# Altium schematic symbol library AlhorithgLib.SchLib: 8 symbols
Pins are listed as number, name and electrical type; pins without a type are passive.

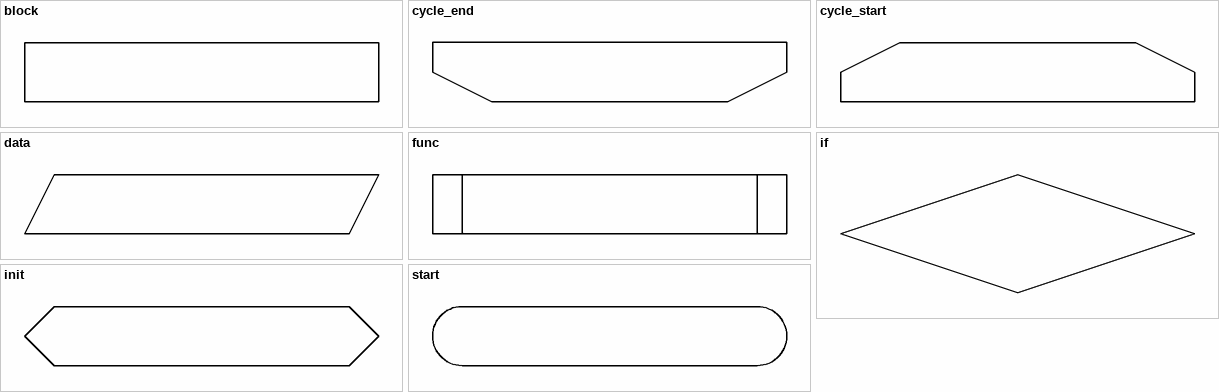
[diagram p0: symbols block to start]

## block
designator *  (value not drawn)

## cycle_end
designator *  (value not drawn)

## cycle_start
designator *  (value not drawn)

## data
designator *  (value not drawn)

## func
designator *  (value not drawn)

## if
designator *  (value not drawn)

## init
designator *  (value not drawn)

## start
designator *  (value not drawn)